# EAGLE library part MFRC523-QFN32 (library Neel)
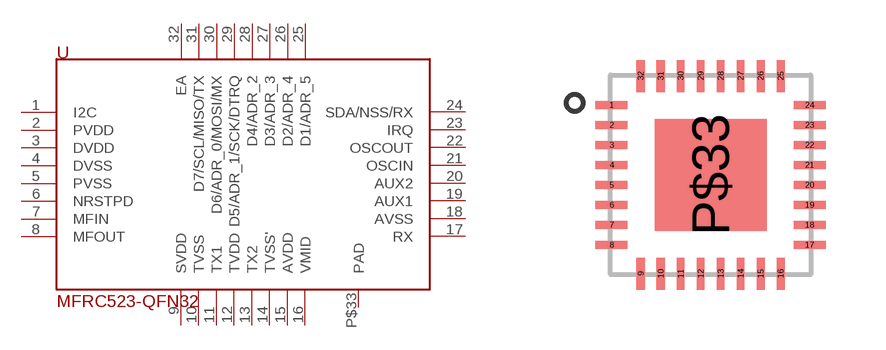
[diagram p42: symbol with the pads of QFN32-5X5; footprint QFN32-5X5]

Designator prefix -

## MFRC523-QFN32  [QFN32-5X5]
1  I2C
2  PVDD
3  DVDD
4  DVSS
5  PVSS
6  NRSTPD
7  MFIN
8  MFOUT
9  SVDD
10  TVSS
11  TX1
12  TVDD
13  TX2
14  TVSS'
15  AVDD
16  VMID
17  RX
18  AVSS
19  AUX1
20  AUX2
21  OSCIN
22  OSCOUT
23  IRQ
24  SDA/NSS/RX
25  D1/ADR_5
26  D2/ADR_4
27  D3/ADR_3
28  D4/ADR_2
29  D5/ADR_1/SCK/DTRQ
30  D6/ADR_0/MOSI/MX
31  D7/SCL/MISO/TX
32  EA
P$33  PAD

## Footprint QFN32-5X5 (pad centres in mm)
smd 0.8 x 0.2: 1 -2.475,1.75; 2 -2.475,1.25; 3 -2.475,0.75; 4 -2.475,0.25; 5 -2.475,-0.25; 6 -2.475,-0.75; 7 -2.475,-1.25; 8 -2.475,-1.75; 17 2.475,-1.75; 18 2.475,-1.25; 19 2.475,-0.75; 20 2.475,-0.25; 21 2.475,0.25; 22 2.475,0.75; 23 2.475,1.25; 24 2.475,1.75
smd 0.2 x 0.8: 9 -1.75,-2.475; 10 -1.25,-2.475; 11 -0.75,-2.475; 12 -0.25,-2.475; 13 0.25,-2.475; 14 0.75,-2.475; 15 1.25,-2.475; 16 1.75,-2.475; 25 1.75,2.475; 26 1.25,2.475; 27 0.75,2.475; 28 0.25,2.475; 29 -0.25,2.475; 30 -0.75,2.475; 31 -1.25,2.475; 32 -1.75,2.475
smd 2.8 x 2.8: P$33 0,0